# EAGLE library part TLV61048 (library Public)
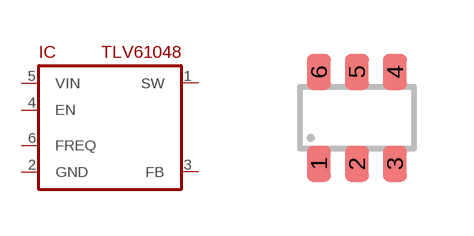
[diagram p232: symbol with the pads of SOT23-6; footprint SOT23-6]

Designator prefix IC

## TLV61048 (ID: TLV61048DBVR)  [SOT23-6]
1  SW
2  GND
3  FB
4  EN
5  VIN
6  FREQ

## Footprint SOT23-6 (pad centres in mm)
SOT23-6 SOT26 SC59-6 SC74 TSOP-6 MO-178AB SMT6 SM6 Mini6 SOT457
smd 0.6 x 0.9: 1 -0.95,-1.15; 2 0,-1.15; 3 0.95,-1.15; 4 0.95,1.15; 5 0,1.15; 6 -0.95,1.15